# Altium schematic symbol library Schlib1.SchLib: 1 symbol
Pins are listed as number, name and electrical type; pins without a type are passive.

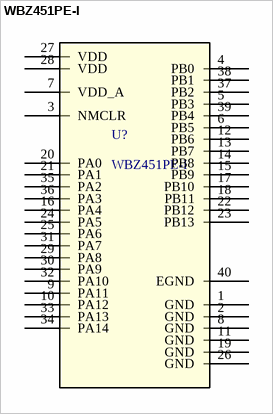
[diagram p0: symbol WBZ451PE-I]

## WBZ451PE-I
designator U?
No Description Available; Mfr_Name: Microchip; Copyright: Copyright (C) 2024 Ultra Librarian. All rights reserved.; Manufacturer_Part_Number: WBZ451PE-I; RefDes: RefDes; Type: DEV
footprint WBZ451_MCH
pins: 1 GND (power), 2 GND (power), 3 NMCLR, 4 PB0, 5 PB3, 6 PB5, 7 VDD_A (power), 8 GND (power), 9 PA11, 10 PA12, 11 GND (power), 12 PB6, 13 PB7, 14 PB8, 15 PB9, 16 PA4, 17 PB10, 18 PB11, 19 GND (power), 20 PA0, 21 PA1, 22 PB12, 23 PB13, 24 PA5, 25 PA6, 26 GND (power), 27 VDD (power), 28 VDD (power), 29 PA8, 30 PA9, 31 PA7, 32 PA10, 33 PA13, 34 PA14, 35 PA2, 36 PA3, 37 PB2, 38 PB1, 39 PB4, 40 EGND (power)